# Altium footprint library LP38798.PcbLib: 3 footprints
Each footprint in its own frame and in the unit in brackets; x right, y up, seen from the top. Pads: shape width x height; smd on the part's side, far side on the other; paste and mask are expansions set on the pad; w line width, h text height; cw(c..) or ccw(c..) is an arc to the next point about the centre after c.
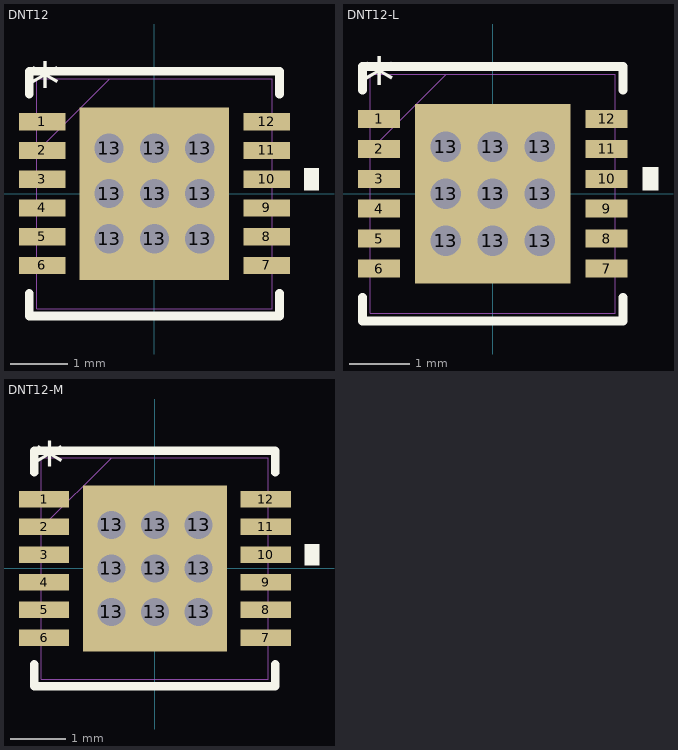
[diagram p0: the footprints below, top view; thin cyan lines are the x and y axes]

## DNT12 [mil]
pads (22):
  rect 31.68x11.81 smd: 1(-76.87,49.21) 2(-76.87,29.53) 3(-76.87,9.84) 4(-76.87,-9.84) 5(-76.87,-29.53) 6(-76.87,-49.21) 7(76.87,-49.21) 8(76.87,-29.53) 9(76.87,-9.84) 10(76.87,9.84) 11(76.87,29.53) 12(76.87,49.21)
  round 40 / inner round 60 / far side round 40 hole 20: 13(-31,-31) 13(-31,0) 13(-31,31) 13(0,-31) 13(0,0) 13(0,31) 13(31,-31) 13(31,0) 13(31,31)
  rect 102.36x118.11 smd paste-58.56 mask-58.5: 13(0,0)
Top Overlay:
  region: 102.71,17.34 112.71,17.34 112.71,2.34 102.71,2.34
  lines w6: -85.71,-68.22 -85.71,-83.74 85.71,-83.74 85.71,-68.22 ; -85.71,68.22 -85.71,83.74 85.71,83.74 85.71,68.22
  text "*" at -85,60 h30
Top Paste:
  region: -40.5,27.06 -48.23,27.06 -48.23,3.94 -40.5,3.94 -34.94,9.5 -34.94,21.5
  region: -40.5,-3.94 -48.23,-3.94 -48.23,-27.06 -40.5,-27.06 -34.94,-21.5 -34.94,-9.5
  region: 48.23,27.06 40.5,27.06 34.94,21.5 34.94,9.5 40.5,3.94 48.23,3.94
Mechanical 1:
  lines w0: -80.71,28.74 -30.71,78.74 ; -80.71,-78.74 80.71,-78.74 80.71,78.74 -80.71,78.74 -80.71,-78.74 ; -80.71,-55.12 -80.71,-43.31 -80.71,-55.12 ; -80.71,-35.43 -80.71,-23.62 -80.71,-35.43 ; -80.71,-15.75 -80.71,-3.94 -80.71,-15.75 ; -80.71,3.94 -80.71,15.75 -80.71,3.94 ; -80.71,23.62 -80.71,35.43 -80.71,23.62 ; -80.71,43.31 -80.71,55.12 -80.71,43.31 ; 80.71,-55.12 80.71,-43.31 80.71,-55.12 ; 80.71,-35.43 80.71,-23.62 80.71,-35.43 ; 80.71,-15.75 80.71,-3.94 80.71,-15.75 ; 80.71,3.94 80.71,15.75 80.71,3.94 ; 80.71,23.62 80.71,35.43 80.71,23.62 ; 80.71,43.31 80.71,55.12 80.71,43.31
  text "*" at -85,60 h30
3D body "DNT12.stp": height 55.01, standoff 0, extent -82.7,-78.73 82.72,78.75

## DNT12-L [mil]
pads (22):
  rect 27.68x11.81 smd: 1(-74.87,49.21) 2(-74.87,29.53) 3(-74.87,9.84) 4(-74.87,-9.84) 5(-74.87,-29.53) 6(-74.87,-49.21) 7(74.87,-49.21) 8(74.87,-29.53) 9(74.87,-9.84) 10(74.87,9.84) 11(74.87,29.53) 12(74.87,49.21)
  round 40 / inner round 60 / far side round 40 hole 20: 13(-31,-31) 13(-31,0) 13(-31,31) 13(0,-31) 13(0,0) 13(0,31) 13(31,-31) 13(31,0) 13(31,31)
  rect 102.36x118.11 smd paste-58.56 mask-58.5: 13(0,0)
Top Overlay:
  region: 98.71,17.34 108.71,17.34 108.71,2.34 98.71,2.34
  lines w6: -85.71,-68.22 -85.71,-83.74 85.71,-83.74 85.71,-68.22 ; -85.71,68.22 -85.71,83.74 85.71,83.74 85.71,68.22
  text "*" at -85,60 h30
Top Paste:
  drawing of 16 lines, arcs and shapes, not listed
Top Solder:
  region: -53.68,38.87 -53.68,61.56 53.68,61.56 53.68,38.87
  region: -53.68,7.87 -53.68,23.13 53.68,23.13 53.68,7.87
  region: -53.68,-23.13 -53.68,-7.87 53.68,-7.87 53.68,-23.13
  region: -53.68,-61.56 -53.68,-38.87 53.68,-38.87 53.68,-61.56
  region: -53.68,-61.56 -53.68,61.56 -38.87,61.56 -38.87,-61.56
  region: -7.87,-61.56 -7.87,61.56 -23.13,61.56 -23.13,-61.56
  region: 23.13,-61.56 23.13,61.56 7.87,61.56 7.87,-61.56
  region: 38.87,-61.56 38.87,61.56 53.68,61.56 53.68,-61.56
Mechanical 1:
  lines w0: -80.71,28.74 -30.71,78.74 ; -80.71,-78.74 80.71,-78.74 80.71,78.74 -80.71,78.74 -80.71,-78.74 ; -80.71,-55.12 -80.71,-43.31 -80.71,-55.12 ; -80.71,-35.43 -80.71,-23.62 -80.71,-35.43 ; -80.71,-15.75 -80.71,-3.94 -80.71,-15.75 ; -80.71,3.94 -80.71,15.75 -80.71,3.94 ; -80.71,23.62 -80.71,35.43 -80.71,23.62 ; -80.71,43.31 -80.71,55.12 -80.71,43.31 ; 80.71,-55.12 80.71,-43.31 80.71,-55.12 ; 80.71,-35.43 80.71,-23.62 80.71,-35.43 ; 80.71,-15.75 80.71,-3.94 80.71,-15.75 ; 80.71,3.94 80.71,15.75 80.71,3.94 ; 80.71,23.62 80.71,35.43 80.71,23.62 ; 80.71,43.31 80.71,55.12 80.71,43.31
  text "*" at -85,60 h30
3D body "DNT12.stp": height 55.01, standoff 0, extent -82.7,-78.73 82.71,78.75

## DNT12-M [mil]
pads (22):
  rect 35.69x11.81 smd: 1(-78.87,49.21) 2(-78.87,29.53) 3(-78.87,9.84) 4(-78.87,-9.84) 5(-78.87,-29.53) 6(-78.87,-49.21) 7(78.87,-49.21) 8(78.87,-29.53) 9(78.87,-9.84) 10(78.87,9.84) 11(78.87,29.53) 12(78.87,49.21)
  round 40 / inner round 60 / far side round 40 hole 20: 13(-31,-31) 13(-31,0) 13(-31,31) 13(0,-31) 13(0,0) 13(0,31) 13(31,-31) 13(31,0) 13(31,31)
  rect 102.36x118.11 smd paste-58.56 mask-58.5: 13(0,0)
Top Overlay:
  region: 106.71,17.34 116.71,17.34 116.71,2.34 106.71,2.34
  lines w6: -85.71,-68.22 -85.71,-83.74 85.71,-83.74 85.71,-68.22 ; -85.71,68.22 -85.71,83.74 85.71,83.74 85.71,68.22
  text "*" at -85,60 h30
Top Paste:
  drawing of 16 lines, arcs and shapes, not listed
Top Solder:
  region: -53.68,38.87 -53.68,61.56 53.68,61.56 53.68,38.87
  region: -53.68,7.87 -53.68,23.13 53.68,23.13 53.68,7.87
  region: -53.68,-23.13 -53.68,-7.87 53.68,-7.87 53.68,-23.13
  region: -53.68,-61.56 -53.68,-38.87 53.68,-38.87 53.68,-61.56
  region: -53.68,-61.56 -53.68,61.56 -38.87,61.56 -38.87,-61.56
  region: -7.87,-61.56 -7.87,61.56 -23.13,61.56 -23.13,-61.56
  region: 23.13,-61.56 23.13,61.56 7.87,61.56 7.87,-61.56
  region: 38.87,-61.56 38.87,61.56 53.68,61.56 53.68,-61.56
Mechanical 1:
  lines w0: -80.71,28.74 -30.71,78.74 ; -80.71,-78.74 80.71,-78.74 80.71,78.74 -80.71,78.74 -80.71,-78.74 ; -80.71,-55.12 -80.71,-43.31 -80.71,-55.12 ; -80.71,-35.43 -80.71,-23.62 -80.71,-35.43 ; -80.71,-15.75 -80.71,-3.94 -80.71,-15.75 ; -80.71,3.94 -80.71,15.75 -80.71,3.94 ; -80.71,23.62 -80.71,35.43 -80.71,23.62 ; -80.71,43.31 -80.71,55.12 -80.71,43.31 ; 80.71,-55.12 80.71,-43.31 80.71,-55.12 ; 80.71,-35.43 80.71,-23.62 80.71,-35.43 ; 80.71,-15.75 80.71,-3.94 80.71,-15.75 ; 80.71,3.94 80.71,15.75 80.71,3.94 ; 80.71,23.62 80.71,35.43 80.71,23.62 ; 80.71,43.31 80.71,55.12 80.71,43.31
  text "*" at -85,60 h30
3D body "DNT12.stp": height 55.01, standoff 0, extent -82.7,-78.73 82.71,78.75